# EAGLE library part MC33202DG (library ON Semiconductor_By_element14_Batch_1)
Low Voltage, Rail-to-Rail Operational Amplifiers
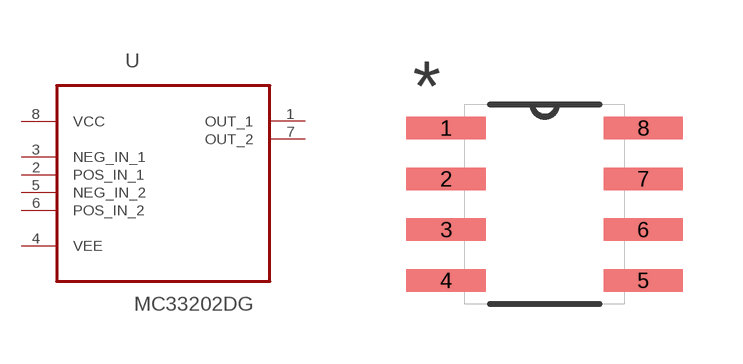
[diagram p366: symbol with the pads of SOIC127P600X175-8N; footprint SOIC127P600X175-8N]

Designator prefix U

## MC33202DG (MPN: MC33202DG; OC_FARNELL: 9666672; OC_NEWARK: 17H1575; PACKAGE: SOIC-8; SUPPLIER: Onsemiconductor)  [SOIC127P600X175-8N]
1  OUT_1  out
2  POS_IN_1  in
3  NEG_IN_1  in
4  VEE  pwr
5  NEG_IN_2  in
6  POS_IN_2  in
7  OUT_2  out
8  VCC  pwr

## Footprint SOIC127P600X175-8N (pad centres in mm)
smd 1.981 x 0.559: 1 -2.464,1.905; 2 -2.464,0.635; 3 -2.464,-0.635; 4 -2.464,-1.905; 5 2.464,-1.905; 6 2.464,-0.635; 7 2.464,0.635; 8 2.464,1.905